# EAGLE library part MCP2221A (library dr-library)
MCP2221A USB 2.0 to I2C/UART Protocol Converter with GPIO Microchip http://ww1.microchip.com/downloads/en/DeviceDoc/20005565B.pdf Mouser Part #579-MCP2221A-I/ST
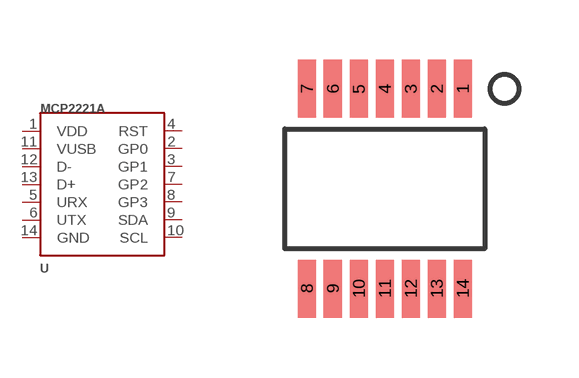
[diagram p29: symbol with the pads of TSSOP-14; footprint TSSOP-14]

Designator prefix U

## MCP2221ATSSOP14  [TSSOP-14]
1  VDD
2  GP0
3  GP1
4  RST
5  URX
6  UTX
7  GP2
8  GP3
9  SDA
10  SCL
11  VUSB
12  D-
13  D+
14  GND

## Footprint TSSOP-14 (pad centres in mm)
smd 0.45 x 1.45: 1 1.95,2.5; 2 1.3,2.5; 3 0.65,2.5; 4 0,2.5; 5 -0.65,2.5; 6 -1.3,2.5; 7 -1.95,2.5; 8 -1.95,-2.5; 9 -1.3,-2.5; 10 -0.65,-2.5; 11 0,-2.5; 12 0.65,-2.5; 13 1.3,-2.5; 14 1.95,-2.5